# EAGLE library part 10_POS_XH_DEV (library Blizzard_Library)
10 POS XH JST
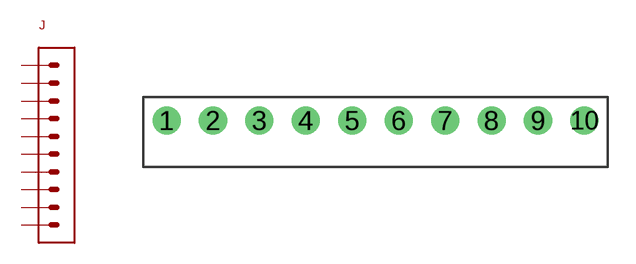
[diagram p5: symbol with the pads of 10_POS_XH_PKG; footprint 10_POS_XH_PKG]

Designator prefix J

## 10_POS_XH_DEV  [10_POS_XH_PKG]
1  P$1
2  P$2
3  P$3
4  P$4
5  P$5
6  P$6
7  P$7
8  P$8
9  P$9
10  P$10

## Footprint 10_POS_XH_PKG (pad centres in mm)
10 Pin JST XH Package
drill 1: 1 -11.25,0; 2 -8.75,0; 3 -6.25,0; 4 -3.75,0; 5 -1.25,0; 6 1.25,0; 7 3.75,0; 8 6.25,0; 9 8.75,0; 10 11.25,0